# EAGLE library part LTC1407-1 (library NMR-relaxometry)
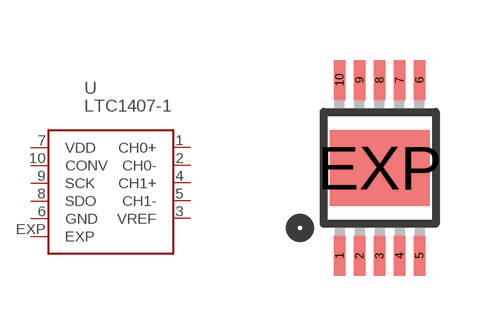
[diagram p11: symbol with the pads of MSOP-10-EXP; footprint MSOP-10-EXP]

Designator prefix -

## LTC1407-1  [MSOP-10-EXP]
1  CH0+  in
2  CH0-  in
3  VREF  pas
4  CH1+  in
5  CH1-  in
6  GND  pwr
7  VDD  pwr
8  SDO  out
9  SCK  in
10  CONV  in
EXP  EXP  pwr

## Footprint MSOP-10-EXP (pad centres in mm)
smd 0.292 x 1: 1 -1,-2.2; 2 -0.5,-2.2; 3 0,-2.2; 4 0.5,-2.2; 5 1,-2.2; 6 1,2.2; 7 0.5,2.2; 8 0,2.2; 9 -0.5,2.2; 10 -1,2.2
smd 2.5 x 1.9: EXP 0,0